# EAGLE library part HE10-10 (library lib_paul)
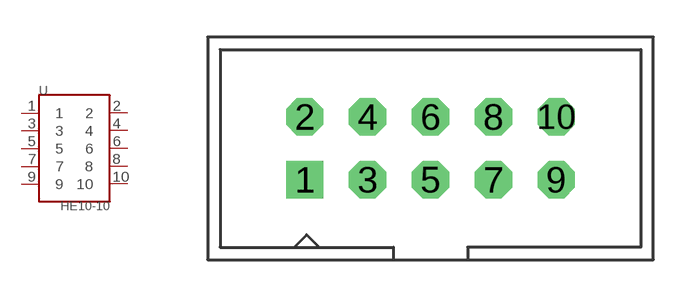
[diagram p5: symbol with the pads of CON-HE10-10-2.54; footprint CON-HE10-10-2.54]

Designator prefix -

## HE10-10  [CON-HE10-10-2.54]
1  1
2  2
3  3
4  4
5  5
6  6
7  7
8  8
9  9
10  10

## Footprint CON-HE10-10-2.54 (pad centres in mm)
drill 1 square: 1 -5.08,-1.27
drill 1 octagon: 2 -5.08,1.27; 3 -2.54,-1.27; 4 -2.54,1.27; 5 0,-1.27; 6 0,1.27; 7 2.54,-1.27; 8 2.54,1.27; 9 5.08,-1.27; 10 5.08,1.27